# EAGLE library part SD_CARD (library dawidkulpa_con)
Micro SD Card socket
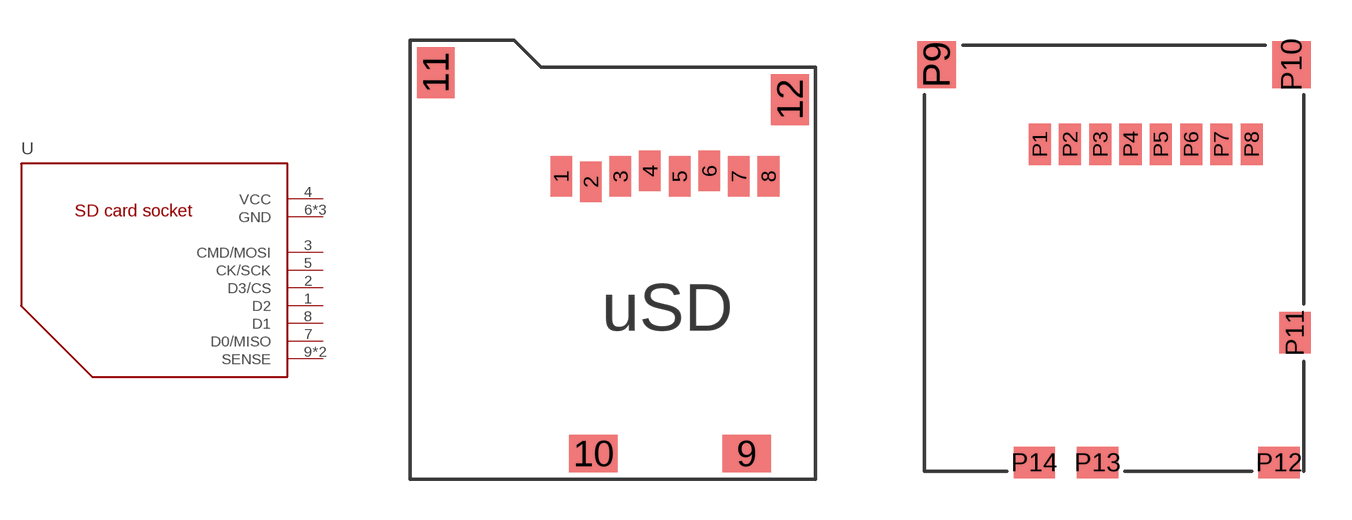
[diagram p0: symbol with the pads of MICROSD; footprints MICROSD, MX-502570-0893]

Designator prefix -

## SD_CARD  [MICROSD]
1  D2
2  D3/CS
3  CMD/MOSI
4  VCC
5  CK/SCK
6  GND
7  D0/MISO
8  D1
9  SENSE
10  SENSE
11  GND
12  GND

## SD_CARDMOLEX  [MX-502570-0893]
P1  D2
P2  D3/CS
P3  CMD/MOSI
P4  VCC
P5  CK/SCK
P6  GND
P7  D0/MISO
P8  D1
P9  GND
P10  GND
P11  GND
P12  GND
P13  SENSE
P14  GND

## Footprint MICROSD (pad centres in mm)
smd 0.8 x 1.5: 1 4.65,9.6; 2 5.75,9.4; 3 6.85,9.6; 4 7.95,9.8; 5 9.05,9.6; 6 10.15,9.8; 7 11.25,9.6; 8 12.35,9.6
smd 1.8 x 1.4: 9 11.55,-0.7; 10 5.85,-0.7
smd 1.4 x 1.9: 11 0,13.45; 12 13.15,12.45

## Footprint MX-502570-0893 (pad centres in mm)
smd 0.8 x 1.5: P1 -2.7,4.2; P2 -1.6,4.2; P3 -0.5,4.2; P4 0.6,4.2; P5 1.7,4.2; P6 2.8,4.2; P7 3.9,4.2; P8 5,4.2
smd 1.4 x 1.7: P9 -6.45,7.1; P10 6.45,7.1
smd 1.15 x 1.5: P11 6.575,-2.65
smd 1.5 x 1.15: P12 6,-7.375; P13 -0.6,-7.375; P14 -2.9,-7.375